# EAGLE library part RASPBERRY-PI (library RaspberryPi_OLD)
Raspberry Pi Board <http://www.raspberrypi.org/> Jacques Lagnel V1.0 (beta) 2012 Board dimension: Forum 3D model <http://www.raspberrypi.org/forum/general-discussion/mechanical-profile-3d-models?value=3d%20model&type=1&include=1&search=1&ret=all> The GPIO Connector (P1): http://elinux.org/RPi_Low-level_peripherals
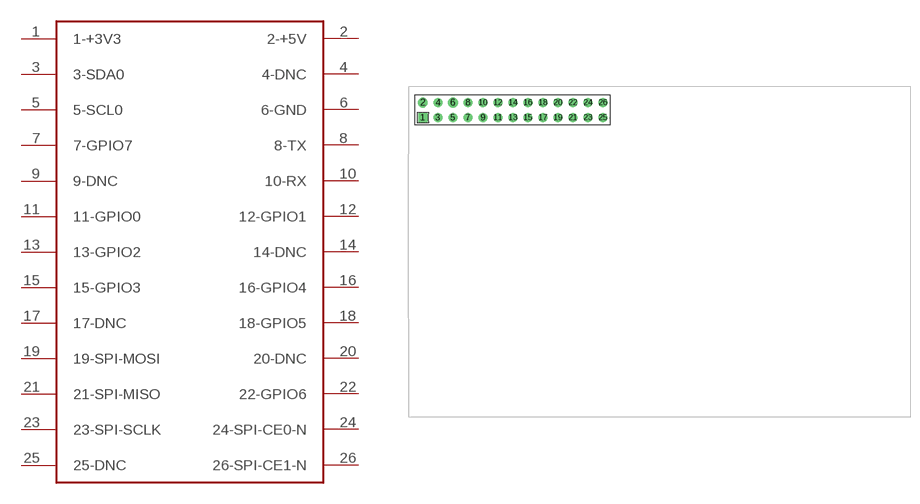
[diagram p0: symbol with the pads of RASPBERRY-PI; footprint RASPBERRY-PI]

Designator prefix -

## RASPBERRY-PI  [RASPBERRY-PI]
1  1-+3V3
2  2-+5V
3  3-SDA0
4  4-DNC
5  5-SCL0
6  6-GND
7  7-GPIO7
8  8-TX
9  9-DNC
10  10-RX
11  11-GPIO0
12  12-GPIO1
13  13-GPIO2
14  14-DNC
15  15-GPIO3
16  16-GPIO4
17  17-DNC
18  18-GPIO5
19  19-SPI-MOSI
20  20-DNC
21  21-SPI-MISO
22  22-GPIO6
23  23-SPI-SCLK
24  24-SPI-CE0-N
25  25-DNC
26  26-SPI-CE1-N

## Footprint RASPBERRY-PI (pad centres in mm)
drill 1 square: 1 0,0
drill 1 pad 1.676: 2 0,2.54; 6 5.08,2.54
drill 1: 3 2.54,0; 4 2.54,2.54; 5 5.08,0; 7 7.62,0; 8 7.62,2.54; 9 10.16,0; 10 10.16,2.54; 11 12.7,0; 12 12.7,2.54; 13 15.24,0; 14 15.24,2.54; 15 17.78,0; 16 17.78,2.54; 17 20.32,0; 18 20.32,2.54; 19 22.86,0; 20 22.86,2.54; 21 25.4,0; 22 25.4,2.54; 23 27.94,0; 24 27.94,2.54; 25 30.48,0; 26 30.48,2.54